# EAGLE library part X__JST_SH_STEHEND_12 (library 16112011___connector)
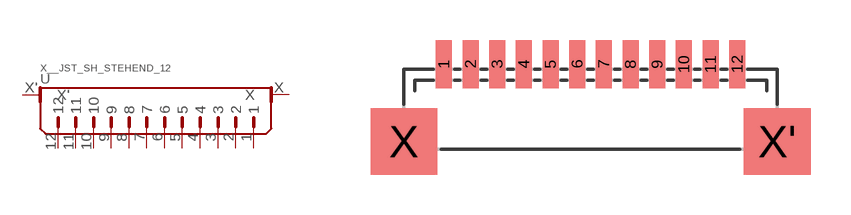
[diagram p43: symbol with the pads of JST_SH_STEHEND_12; footprint JST_SH_STEHEND_12]

Designator prefix -

## X__JST_SH_STEHEND_12  [JST_SH_STEHEND_12]
1  1
2  2
3  3
4  4
5  5
6  6
7  7
8  8
9  9
10  10
11  11
12  12
X  X
X'  X'

## Footprint JST_SH_STEHEND_12 (pad centres in mm)
smd 0.6 x 1.8: 1 0,0; 2 1,0; 3 2,0; 4 3,0; 5 4,0; 6 5,0; 7 6,0; 8 7,0; 9 8,0; 10 9,0; 11 10,0; 12 11,0
smd 2.5 x 2.5: X -1.5,-2.9; X' 12.5,-2.9